# Altium footprint library passive.PcbLib: 25 footprints (part 1 of 2)
Each footprint in its own frame and in the unit in brackets; x right, y up, seen from the top. Pads: shape width x height; smd on the part's side, far side on the other; paste and mask are expansions set on the pad; w line width, h text height; cw(c..) or ccw(c..) is an arc to the next point about the centre after c.
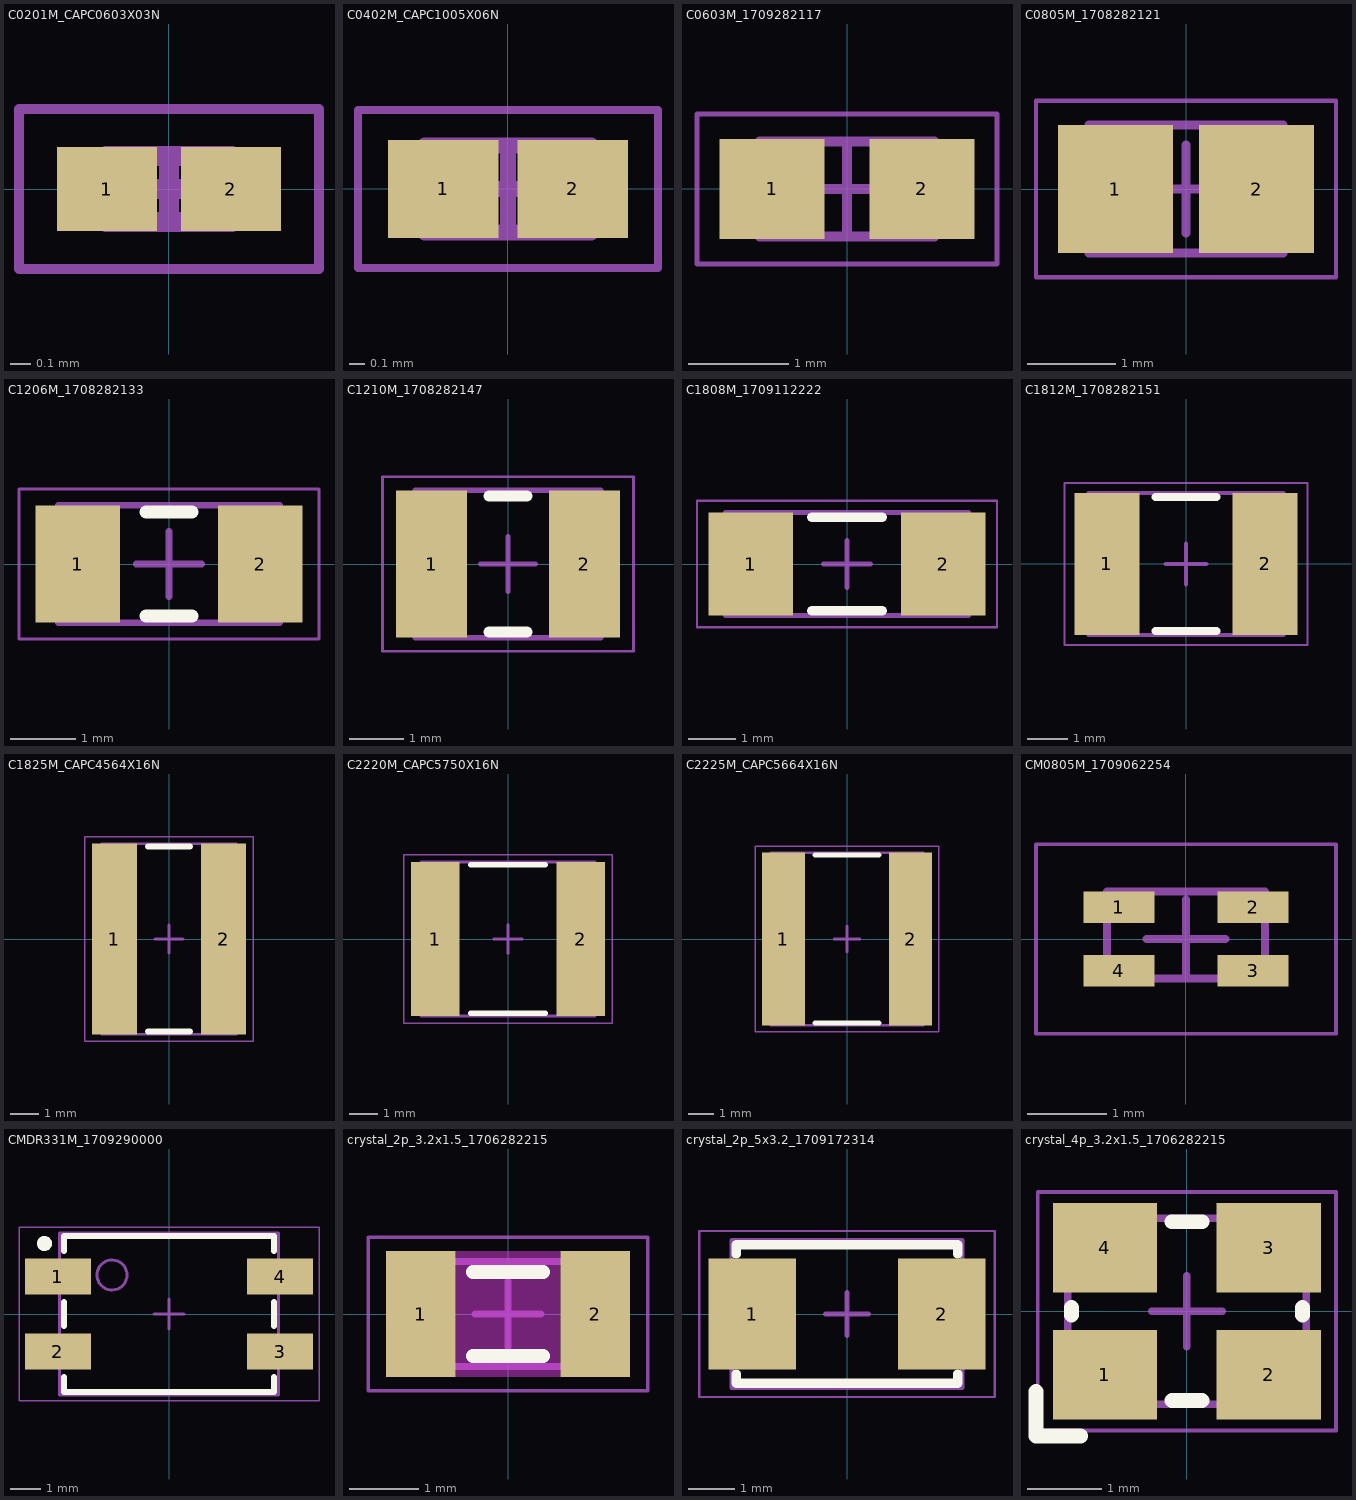
[diagram p0: the footprints below, top view; thin cyan lines are the x and y axes]

## C0201M_CAPC0603X03N [mm] "Chip Capacitor, 2-Leads, Body 0,60x0,30mm, IPC Medium Density"
height 0.33
pads (2):
  rect 0.5x0.42 smd: 1(-0.31,0) 2(0.31,0)
Assembly Outline:
  lines w0.1: -0.315,-0.165 0.315,-0.165 0.315,0.165 -0.315,0.165 -0.315,-0.165
Courtyard Outline:
  lines w0.05: -0.75,-0.4 0.75,-0.4 0.75,0.4 -0.75,0.4 -0.75,-0.4
  lines w0.1: -0.165,0 0.165,0 ; 0,-0.165 0,0.165
3D body "CAPC0603X03N.step": height 0.33, standoff 0, extent -0.315,-0.165 0.315,0.165

## C0402M_CAPC1005X06N [mm] "Chip Capacitor, 2-Leads, Body 1,00x0,50mm, IPC Medium Density"
height 0.6
pads (2):
  rect 0.7x0.62 smd: 1(-0.41,0) 2(0.41,0)
Assembly Outline:
  lines w0.1: -0.525,-0.275 0.525,-0.275 0.525,0.275 -0.525,0.275 -0.525,-0.275
Courtyard Outline:
  lines w0.05: -0.95,-0.5 0.95,-0.5 0.95,0.5 -0.95,0.5 -0.95,-0.5
  lines w0.1: -0.275,0 0.275,0 ; 0,-0.275 0,0.275
3D body "CAPC1005X06N.step": height 0.6, standoff 0, extent -0.525,-0.275 0.525,0.275

## C0603M_1709282117 [mm] "Chip Capacitor, 2-Leads, Body 1,60x0,80mm, IPC Medium Density"
height 0.92
pads (2):
  rect 1.05x1 smd: 1(-0.75,0) 2(0.75,0)
Assembly Outline:
  lines w0.1: -0.875,-0.475 0.875,-0.475 0.875,0.475 -0.875,0.475 -0.875,-0.475
Courtyard Outline:
  lines w0.05: -1.5,-0.75 1.5,-0.75 1.5,0.75 -1.5,0.75 -1.5,-0.75
  lines w0.1: -0.475,0 0.475,0 ; 0,-0.475 0,0.475
3D body "CAPC1608X09N.step": height 0.92, standoff 0, extent -0.875,-0.475 0.875,0.475

## C0805M_1708282121 [mm] "Chip Capacitor, 2-Leads, Body 2,00x1,25mm, IPC Medium Density"
height 1
pads (2):
  rect 1.3x1.45 smd: 1(-0.8,0) 2(0.8,0)
Assembly Outline:
  lines w0.1: -1.1,-0.725 1.1,-0.725 1.1,0.725 -1.1,0.725 -1.1,-0.725
Courtyard Outline:
  lines w0.05: -1.7,-1 1.7,-1 1.7,1 -1.7,1 -1.7,-1
  lines w0.1: -0.5,0 0.5,0 ; 0,-0.5 0,0.5
3D body "CAPC2012X10N.step": height 1, standoff 0, extent -1.1,-0.725 1.1,0.725

## C1206M_1708282133 [mm] "Chip Capacitor, 2-Leads, Body 3,20x1,60mm, IPC Medium Density"
height 1.2
pads (2):
  rect 1.3x1.8 smd: 1(-1.4,0) 2(1.4,0)
Top Overlay:
  lines w0.2: -0.35,-0.8 0.35,-0.8 ; -0.35,0.8 0.35,0.8
Assembly Outline:
  lines w0.1: -1.7,-0.9 1.7,-0.9 1.7,0.9 -1.7,0.9 -1.7,-0.9
Courtyard Outline:
  lines w0.05: -2.3,-1.15 2.3,-1.15 2.3,1.15 -2.3,1.15 -2.3,-1.15
  lines w0.1: -0.5,0 0.5,0 ; 0,-0.5 0,0.5
3D body "CAPC3216X12N.step": height 1.2, standoff 0, extent -1.7,-0.9 1.7,0.9

## C1210M_1708282147 [mm] "Chip Capacitor, 2-Leads, Body 3,20x2,50mm, IPC Medium Density"
height 1.2
pads (2):
  rect 1.3x2.7 smd: 1(-1.4,0) 2(1.4,0)
Top Overlay:
  lines w0.2: -0.35,-1.25 0.35,-1.25 ; -0.35,1.25 0.35,1.25
Assembly Outline:
  lines w0.1: -1.7,-1.35 -1.7,1.35 1.7,1.35 1.7,-1.35 -1.7,-1.35
Courtyard Outline:
  lines w0.05: -2.3,-1.6 -2.3,1.6 2.3,1.6 2.3,-1.6 -2.3,-1.6
  lines w0.1: -0.5,0 0.5,0 ; 0,-0.5 0,0.5
3D body "CAPC3225X12N.step": height 1.2, standoff 0, extent -1.7,-1.35 1.7,1.35

## C1808M_1709112222 [mm] "Chip Capacitor, 2-Leads, Body 4,70x2,00mm, IPC Medium Density"
height 1.15
pads (2):
  rect 1.8x2.2 smd: 1(-2.05,0) 2(2.05,0)
Top Overlay:
  lines w0.2: -0.75,-1 0.75,-1 ; -0.75,1 0.75,1
Assembly Outline:
  lines w0.1: -2.6,-1.1 2.6,-1.1 2.6,1.1 -2.6,1.1 -2.6,-1.1
Courtyard Outline:
  lines w0.05: -3.2,-1.35 3.2,-1.35 3.2,1.35 -3.2,1.35 -3.2,-1.35
  lines w0.1: -0.5,0 0.5,0 ; 0,-0.5 0,0.5
3D body "CAPC4720X11N.step": height 1.15, standoff 0, extent -2.6,-1.1 2.6,1.1

## C1812M_1708282151 [mm] "Chip Capacitor, 2-Leads, Body 4,50x3,20mm, IPC Medium Density"
height 1.7
pads (2):
  rect 1.6x3.5 smd: 1(-1.95,0) 2(1.95,0)
Top Overlay:
  lines w0.2: -0.75,-1.65 0.75,-1.65 ; -0.75,1.65 0.75,1.65
Assembly Outline:
  lines w0.1: -2.4,-1.75 -2.4,1.75 2.4,1.75 2.4,-1.75 -2.4,-1.75
Courtyard Outline:
  lines w0.05: -3,-2 -3,2 3,2 3,-2 -3,-2
  lines w0.1: -0.5,0 0.5,0 ; 0,-0.5 0,0.5
3D body "CAPC4532X17N.step": height 1.7, standoff 0, extent -2.4,-1.75 2.4,1.75

## C1825M_CAPC4564X16N [mm] "Chip Capacitor, 2-Leads, Body 4,50x6,40mm, IPC Medium Density"
height 1.55
pads (2):
  rect 1.6x6.8 smd: 1(-1.95,0) 2(1.95,0)
Top Overlay:
  lines w0.2: -0.75,-3.3 0.75,-3.3 ; -0.75,3.3 0.75,3.3
Assembly Outline:
  lines w0.1: -2.4,-3.4 -2.4,3.4 2.4,3.4 2.4,-3.4 -2.4,-3.4
Courtyard Outline:
  lines w0.05: -3,-3.65 -3,3.65 3,3.65 3,-3.65 -3,-3.65
  lines w0.1: -0.5,0 0.5,0 ; 0,-0.5 0,0.5
3D body "CAPC4564X16N.step": height 1.55, standoff 0, extent -2.4,-3.4 2.4,3.4

## C2220M_CAPC5750X16N [mm] "Chip Capacitor, 2-Leads, Body 5,70x5,00mm, IPC Medium Density"
height 1.65
pads (2):
  rect 1.7x5.4 smd: 1(-2.55,0) 2(2.55,0)
Top Overlay:
  lines w0.2: -1.3,-2.6 1.3,-2.6 ; -1.3,2.6 1.3,2.6
Assembly Outline:
  lines w0.1: -3.05,-2.7 -3.05,2.7 3.05,2.7 3.05,-2.7 -3.05,-2.7
Courtyard Outline:
  lines w0.05: -3.65,-2.95 -3.65,2.95 3.65,2.95 3.65,-2.95 -3.65,-2.95
  lines w0.1: -0.5,0 0.5,0 ; 0,-0.5 0,0.5
3D body "CAPC5750X16N.step": height 1.65, standoff 0, extent -3.05,-2.7 3.05,2.7

## C2225M_CAPC5664X16N [mm] "Chip Capacitor, 2-Leads, Body 5,60x6,40mm, IPC Medium Density"
height 1.55
pads (2):
  rect 1.7x6.8 smd: 1(-2.5,0) 2(2.5,0)
Top Overlay:
  lines w0.2: -1.25,-3.3 1.25,-3.3 ; -1.25,3.3 1.25,3.3
Assembly Outline:
  lines w0.1: -3,-3.4 -3,3.4 3,3.4 3,-3.4 -3,-3.4
Courtyard Outline:
  lines w0.05: -3.6,-3.65 -3.6,3.65 3.6,3.65 3.6,-3.65 -3.6,-3.65
  lines w0.1: -0.5,0 0.5,0 ; 0,-0.5 0,0.5
3D body "CAPC5664X16N.step": height 1.55, standoff 0, extent -3,-3.4 3,3.4

## CM0805M_1709062254 [mm] "CM Inductor, 4-Leads, IPC Medium Density"
height 0.95
pads (4):
  rect 0.9x0.4 smd: 1(-0.85,0.4) 2(0.85,0.4) 3(0.85,-0.4) 4(-0.85,-0.4)
Assembly Outline:
  lines w0.1: -1,-0.5 -1,0.6 1,0.6 1,-0.5 -1,-0.5
Courtyard Outline:
  lines w0.05: -1.9,-1.2 -1.9,1.2 1.9,1.2 1.9,-1.2 -1.9,-1.2
  lines w0.1: -0.5,0 0.5,0 ; 0,-0.5 0,0.5
3D body "STEP-WE-CNSW-0805-rev1.stp": height 1.2, standoff 0, extent -1,-0.6 1,0.6

## CMDR331M_1709290000 [mm] "CM Inductor, 4-Leads, IPC Medium Density"
height 4.7
pads (4):
  rect 2.2x1.2 smd: 1(-3.7,1.25) 2(-3.7,-1.25) 3(3.7,-1.25) 4(3.7,1.25)
Top Overlay:
  circle w0.25: c-4.15,2.35 r0.125
  lines w0.2: -3.5,-2.1 -3.5,-2.6 3.5,-2.6 3.5,-2.1 ; -3.5,-0.4 -3.5,0.4 ; -3.5,2.1 -3.5,2.6 3.5,2.6 3.5,2.1 ; 3.5,-0.4 3.5,0.4
Assembly Outline:
  circle w0.1: c-1.9,1.3 r0.5
  lines w0.1: -3.65,-2.7 3.65,-2.7 3.65,2.7 -3.65,2.7 -3.65,-2.7
Courtyard Outline:
  lines w0.05: -5,-2.9 5,-2.9 5,2.9 -5,2.9 -5,-2.9
  lines w0.1: -0.5,0 0.5,0 ; 0,-0.5 0,0.5
3D body "dr331.stp": height 4.95, standoff -0.05, extent -4.5,-2.7 4.5,2.7

## crystal_2p_3.2x1.5_1706282215 [mm] "Crystal 2pin SMD, Body 3.2x1.5mm"
height 1
pads (2):
  rect 1x1.8 smd: 1(-1.25,0) 2(1.25,0)
Top Layer keep-out:
  rectangle: -0.75,-0.9 0.75,0.9
Top Overlay:
  lines w0.2: -0.5,-0.6 0.5,-0.6 ; -0.5,0.6 0.5,0.6
Assembly Outline:
  lines w0.1: -1.6,-0.75 1.6,-0.75 1.6,0.75 -1.6,0.75 -1.6,-0.75
Assembly Refdes:
  text ".Designator" at 0,0 h0.5
Courtyard Outline:
  lines w0.05: -2,-1.1 2,-1.1 2,1.1 -2,1.1 -2,-1.1
  lines w0.1: -0.475,0 0.475,0 ; 0,-0.475 0,0.475
3D body "User Library-KX-327NHT-1.STEP": height 0.71, standoff 0, extent -1.6,-0.75 1.6,0.75

## crystal_2p_5x3.2_1709172314 [mm] "Crystal 2pin SMD, Body 5x3.2mm"
height 1.3
pads (2):
  rect 1.9x2.4 smd: 1(-2.05,0) 2(2.05,0)
Top Overlay:
  lines w0.2: -2.4,-1.3 -2.4,-1.5 2.4,-1.5 2.4,-1.3 ; -2.4,1.3 -2.4,1.5 2.4,1.5 2.4,1.3
Assembly Outline:
  lines w0.1: -2.5,-1.6 2.5,-1.6 2.5,1.6 -2.5,1.6 -2.5,-1.6
Assembly Refdes:
  text ".Designator" at 0,0 h0.5
Courtyard Outline:
  lines w0.05: -3.2,-1.8 3.2,-1.8 3.2,1.8 -3.2,1.8 -3.2,-1.8
  lines w0.1: -0.475,0 0.475,0 ; 0,-0.475 0,0.475
3D body "ABM3.STEP": height 1.3, standoff 0, extent -2.5,-1.6 2.5,1.6

## crystal_4p_3.2x1.5_1706282215 [mm] "Crystal 4pin SMD, Body 3.2x2.5mm"
height 1
pads (4):
  rect 1.4x1.2 smd: 1(-1.1,-0.85) 2(1.1,-0.85) 3(1.1,0.85) 4(-1.1,0.85)
Top Overlay:
  lines w0.2: -2.025,-1.075 -2.025,-1.675 -1.425,-1.675 ; -1.55,-0.05 -1.55,0.05 ; -0.2,-1.2 0.2,-1.2 ; -0.2,1.2 0.2,1.2 ; 1.55,-0.05 1.55,0.05
Assembly Outline:
  lines w0.1: -1.6,-1.25 1.6,-1.25 1.6,1.25 -1.6,1.25 -1.6,-1.25
Assembly Refdes:
  text ".Designator" at 0,0 h0.5
Courtyard Outline:
  lines w0.05: -2,-1.6 2,-1.6 2,1.6 -2,1.6 -2,-1.6
  lines w0.1: -0.475,0 0.475,0 ; 0,-0.475 0,0.475
3D body "User Library-Crystal TXC Corp 7M series.step": height 0.8, standoff 0, extent -1.65,-1.3 1.65,1.3